# EAGLE library part OPAMP-TLC2274 (library bedofnails)
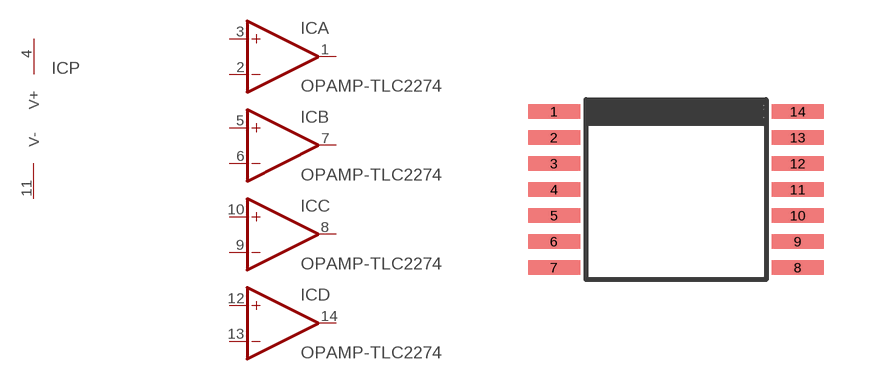
[diagram p10: symbol with the pads of TSSOP-14; footprint TSSOP-14]

Designator prefix IC; gates A=OPAMP B=OPAMP C=OPAMP D=OPAMP P=POWER-PINS

## OPAMP-TLC2274  [TSSOP-14]
1  A:OUT  out
2  A:-IN  in
3  A:+IN  in
4  P:V+
5  B:+IN  in
6  B:-IN  in
7  B:OUT  out
8  C:OUT  out
9  C:-IN  in
10  C:+IN  in
11  P:V-
12  D:+IN  in
13  D:-IN  in
14  D:OUT  out

## Footprint TSSOP-14 (pad centres in mm)
smd 1.3 x 0.36: 1 0,0; 2 0,-0.65; 3 0,-1.3; 4 0,-1.95; 5 0,-2.6; 6 0,-3.25; 7 0,-3.9; 8 6.095,-3.9; 9 6.095,-3.25; 10 6.095,-2.6; 11 6.095,-1.95; 12 6.095,-1.3; 13 6.095,-0.65; 14 6.095,0